# Altium schematic symbol library EEE-TQV470XAP.SchLib: 1 symbol
Pins are listed as number, name and electrical type; pins without a type are passive.

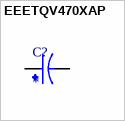
[diagram p0: symbol EEETQV470XAP]

## EEETQV470XAP
designator C?
MP: EEETQV470XAP; MF: {'manufacturer': u'Panasonic'}; Package: None; Availability: Unavailable; Price: None; Value: *
footprint CAP_EEETQV470XAP
pins: 1, 2